# Altium schematic symbol library E16_8PIN_CUSTOM1.Schlib: 1 symbol
Pins are listed as number, name and electrical type; pins without a type are passive.

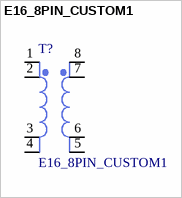
[diagram p0: symbol E16_8PIN_CUSTOM1]

## E16_8PIN_CUSTOM1
designator T?
pins: 1, 2, 3, 4, 5, 6, 7, 8